# Altium footprint library PowerPAK_1212-8S.PcbLib: 1 footprints
Each footprint in its own frame and in the unit in brackets; x right, y up, seen from the top. Pads: shape width x height; smd on the part's side, far side on the other; paste and mask are expansions set on the pad; w line width, h text height; cw(c..) or ccw(c..) is an arc to the next point about the centre after c.
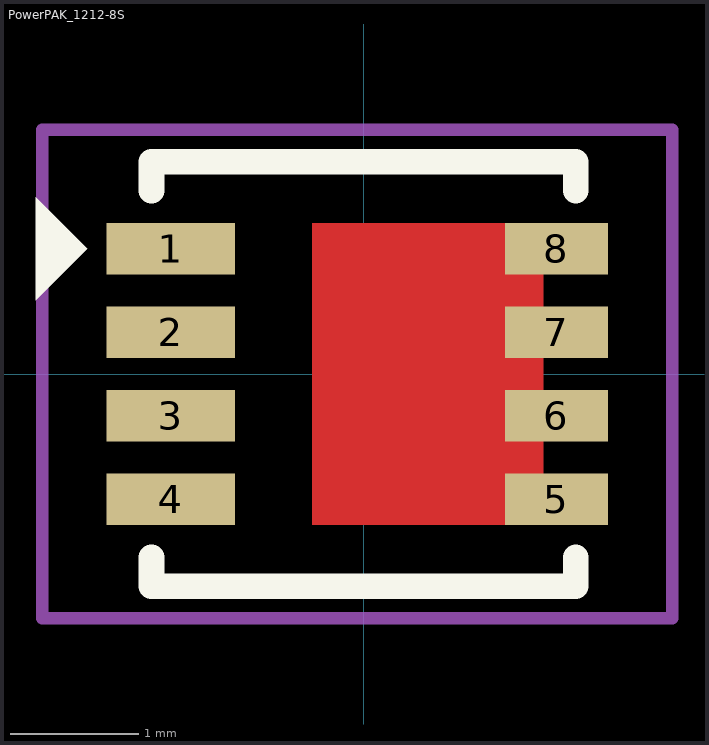
[diagram p0: the footprint, top view; thin cyan lines are the x and y axes]

## PowerPAK_1212-8S [mm]
pads (8):
  rect 1x0.4 smd paste+0: 1(-1.5,0.975) 2(-1.5,0.325) 3(-1.5,-0.325) 4(-1.5,-0.975)
  rect 0.8x0.4 smd paste+0: 5(1.5,-0.975) 6(1.5,-0.325) 7(1.5,0.325) 8(1.5,0.975)
Top Layer:
  rectangle: -0.4,-1.175 1.4,1.175
Top Overlay:
  region: -2.55,0.575 -2.55,1.375 -2.15,0.975
  lines w0.2: -1.65,-1.425 -1.65,-1.65 1.65,-1.65 1.65,-1.425 ; -1.65,1.425 -1.65,1.65 1.65,1.65 1.65,1.425
Top Courtyard:
  lines w0.1: -2.5,-1.9 -2.5,1.9 2.4,1.9 2.4,-1.9 -1.65,-1.9 -2.5,-1.9
3D body: height 0.75, standoff 0.03, extent -1.65,-1.65 1.65,1.65
3D body: height 0.8, standoff 0.05, extent -1.447,0.851 -0.85,1.45